# Altium schematic symbol library Led_Lite-On_LTST-C193TBKT-5A_Blue.SchLib: 1 symbol
Pins are listed as number, name and electrical type; pins without a type are passive.

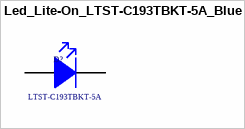
[diagram p0: symbol Led_Lite-On_LTST-C193TBKT-5A_Blue]

## Led_Lite-On_LTST-C193TBKT-5A_Blue
designator D?  Series: LTST-C193TBKT-5A  (hidden comment: Led_Lite-On_LTST-C193TBKT-5A_Blue)
Standard LEDs - SMD Blue 470nm 28mcd 20mA; Supplier 1: Mouser; Supplier Part Number 1: 859-LTSTC193TBKT5A
footprint Led_Lite-On_LTST-C193TBKT-5A_Blue (Standard LEDs - SMD Blue 470nm 28mcd 20mA)
pins: 1 K, 2 A